# EAGLE library part TLV76718DRVR (library SamacSys_Parts)
Adjustable and fixed 1-A 16-V positive-voltage low-dropout (LDO) linear regulator Source: Datasheet <http://www.ti.com/lit/gpn/TLV767>
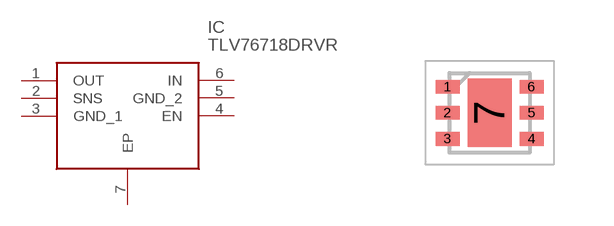
[diagram p2: symbol with the pads of SON65P200X200X80-7N; footprint SON65P200X200X80-7N]

Designator prefix IC

## TLV76718DRVR (Description: Adjustable and fixed 1-A 16-V positive-voltage low-dropout (LDO) linear regulator; Height: 0.8mm; Manufacturer_Name: Texas Instruments; Manufacturer_Part_Number: TLV76718DRVR; Mouser_Part_Number: 595-TLV76718DRVR; Mouser_Price-Stock: https://www.mouser.com/Search/Refine.aspx?Keyword=595-TLV76718DRVR)  [SON65P200X200X80-7N]
1  OUT
2  SNS
3  GND_1
4  EN
5  GND_2
6  IN
7  EP

## Footprint SON65P200X200X80-7N (pad centres in mm)
TLV76718DRVR
smd 0.6 x 0.35: 1 -1.05,0.65; 2 -1.05,0; 3 -1.05,-0.65; 4 1.05,-0.65; 5 1.05,0; 6 1.05,0.65
smd 1.1 x 1.7: 7 0,0